# EAGLE library part PLD18 (library doz)
Удвоенный разъем PLD-18 для ацп
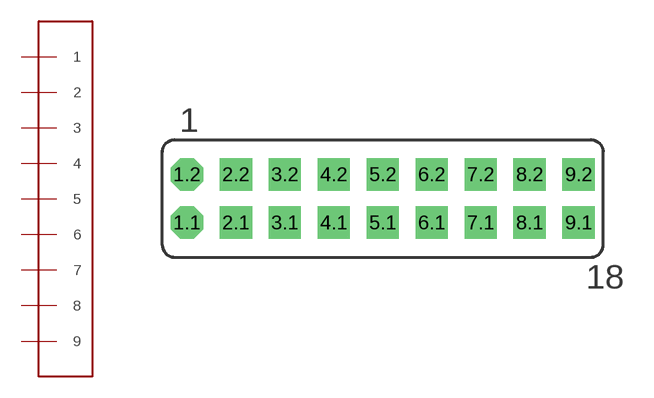
[diagram p14: symbol with the pads of PLD18; footprint PLD18]

Designator prefix -

## PLD18  [PLD18]
1.1  1
1.2  1
2.1  2
2.2  2
3.1  3
3.2  3
4.1  4
4.2  4
5.1  5
5.2  5
6.1  6
6.2  6
7.1  7
7.2  7
8.1  8
8.2  8
9.1  9
9.2  9

## Footprint PLD18 (pad centres in mm)
drill 1 pad 1.676 octagon: 1.1 -10.16,-1.25; 1.2 -10.16,1.25
drill 1 pad 1.676 square: 2.1 -7.62,-1.25; 2.2 -7.62,1.25; 3.1 -5.08,-1.25; 3.2 -5.08,1.25; 4.1 -2.54,-1.25; 4.2 -2.54,1.25; 5.1 0,-1.25; 5.2 0,1.25; 6.1 2.54,-1.25; 6.2 2.54,1.25; 7.1 5.08,-1.25; 7.2 5.08,1.25; 8.1 7.62,-1.25; 8.2 7.62,1.25; 9.1 10.16,-1.25; 9.2 10.16,1.25